# Altium footprint library DK TT.PcbLib: 23 footprints (part 2 of 2)
Each footprint in its own frame and in the unit in brackets; x right, y up, seen from the top. Pads: shape width x height; smd on the part's side, far side on the other; paste and mask are expansions set on the pad; w line width, h text height; cw(c..) or ccw(c..) is an arc to the next point about the centre after c.
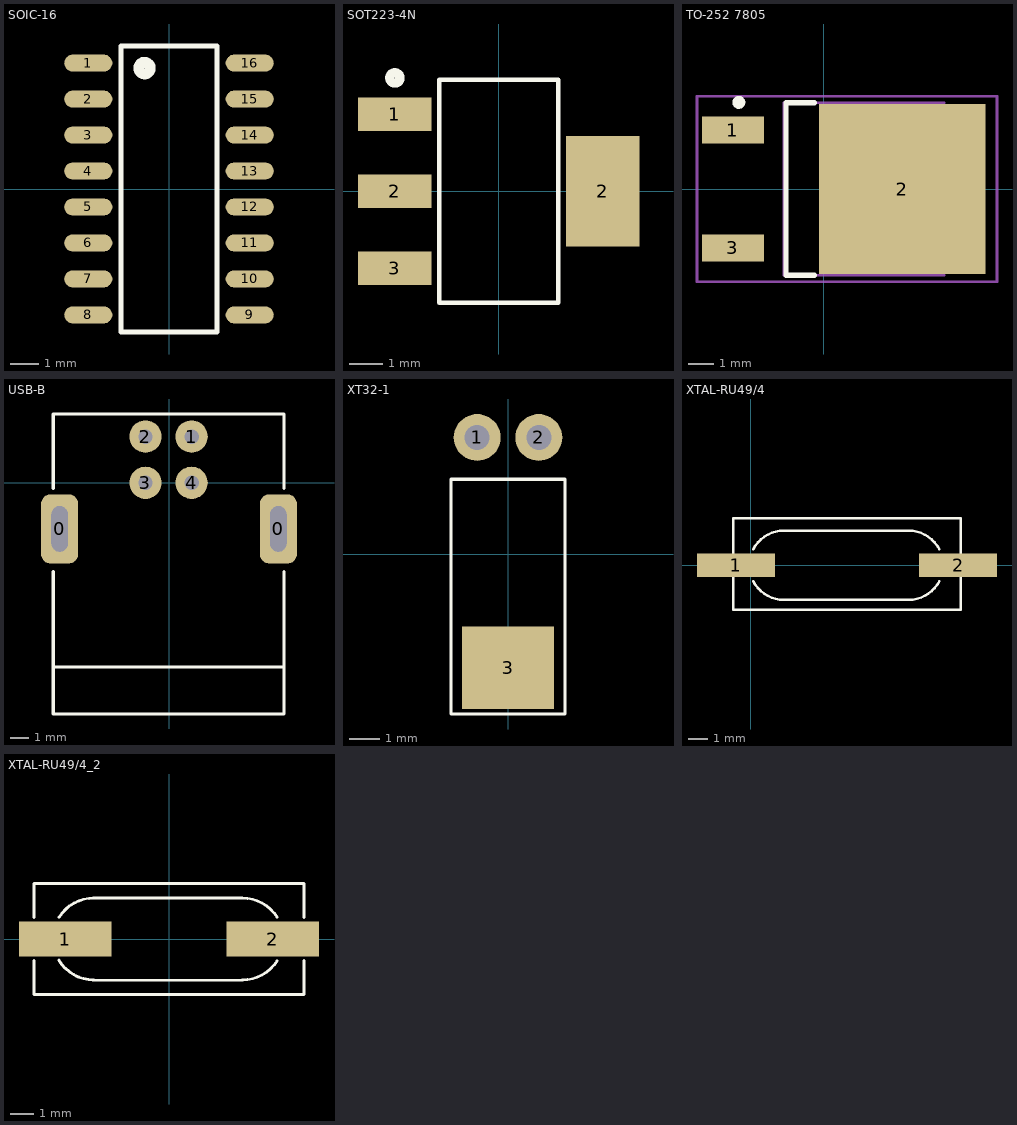
[diagram p1: the footprints below, top view; thin cyan lines are the x and y axes]

## SOIC-16 [mm]
height 1.75
pads (16):
  oval 1.7x0.6 smd: 1(-2.85,4.445) 2(-2.85,3.175) 3(-2.85,1.905) 4(-2.85,0.635) 5(-2.85,-0.635) 6(-2.85,-1.905) 7(-2.85,-3.175) 8(-2.85,-4.445) 9(2.85,-4.445) 10(2.85,-3.175) 11(2.85,-1.905) 12(2.85,-0.635) 13(2.85,0.635) 14(2.85,1.905) 15(2.85,3.175) 16(2.85,4.445)
Top Overlay:
  circle w0.381: c-0.864,4.267 r0.203
  lines w0.178: -1.7,-5.055 1.7,-5.055 1.7,5.055 -1.7,5.055 -1.7,-5.055
3D body "User Library-SOIC-16-3.step": height 1.7, standoff 0, extent -3.099,-4.953 3.099,4.953

## SOT223-4N [mm] "SOT223, 4-Leads, Body 6.5x3.5mm, Pitch 2.3mm, Lead Span 7mm, IPC Medium Density"
height 1.8
pads (4):
  rect 2.2x1 smd: 1(-3.1,2.3) 2(-3.1,0) 3(-3.1,-2.3)
  rect 2.2x3.3 smd: 2(3.1,0)
Top Overlay:
  circle w0.279: c-3.099,3.378 r0.152
  lines w0.127: -1.779,-3.327 1.777,-3.327 1.777,3.327 -1.779,3.327 -1.779,-3.327
3D body "User Library-SOT223-3.step": height 1.7, standoff 0, extent -3.5,-3.25 3.5,3.25

## TO-252 7805 [mil]
height 68.9
pads (3):
  rect 95x41.34 smd: 1(-138.92,90.16) 3(-138.92,-90.16)
  rect 255x260 smd: 2(120,0)
Top Overlay:
  circle w9.84: c-129.92,132.48 r4.92
  lines w7.87: -14.57,-131.89 -58.07,-131.89 -58.07,131.89 -14.57,131.89
Mechanical 13:
  lines w3.94: 183.86,-131.89 -61.02,-131.89 -61.02,131.89 183.86,131.89
Mechanical 15:
  lines w3.94: 15.75,0 55.12,0 ; 35.43,-19.68 35.43,19.69 ; -193.9,-141.73 264.76,-141.73 264.76,141.73 -193.9,141.73 -193.9,-141.73
3D body "CircuitWorks-TO-252.step": height 90.55, standoff 0, extent -160.48,-129.52 221.41,129.53

## USB-B [mil]
height 68.9
pads (6):
  rrect50% 80x150 hole 35.43 slot 98.43 at 90 deg: 0(-237.01,-100) 0(237.01,-100)
  round 70 hole 31: 1(49,100) 2(-51,100) 3(-51,0) 4(49,0)
Top Overlay:
  lines w7: -251,-501 249,-501 ; -251,-399 249,-399 ; -251,149 249,149
  lines w7.01: -251,-501 -251,-192.91 ; -251,-11.81 -251,149 ; 249,-501 249,-192.91 ; 249,-11.81 249,149
Mechanical 11:
  text ".Designator" at 40,-130 h30
Mechanical 12:
  text ".Comment" at 40,-130 h30
3D body "Samtec3dPS-USBR-B.STEP": height 446.54, standoff -132.99, extent -290.28,-499.73 296.29,142

## XT32-1 [mil] "Cryxtal 32.768kHz"
height 68.9
pads (3):
  round 60 hole 32: 1(-39.37,149.35) 2(39.37,149.35)
  rect 118.11x105 smd: 3(0,-145)
Top Overlay:
  lines w4: -73,-93 -73,96 73,96 73,-204 -73,-204 -73,-92
3D body: height 68.88, standoff 49.23, extent 29.7,90.94 49.3,150
3D body: height 68.9, standoff 49.21, extent 29.78,140.78 49.36,160.38
3D body: height 60, standoff -60, extent 29.76,140.7 49.44,160.39
3D body: height 60, standoff -60, extent -49.4,140.05 -29.71,159.74
3D body: height 68.9, standoff 49.21, extent -49.37,140.13 -29.79,159.73
3D body: height 68.88, standoff 49.23, extent -49.46,90.3 -29.85,149.35
3D body: height 129.78, standoff -11.67, extent -70.59,-202.28 70.59,93

## XTAL-RU49/4 [mm]
height 2.5
pads (2):
  rect 4x1.2 smd: 1(-0.762,0) 2(10.668,0)
Top Overlay:
  lines w0.127: 0.127,-0.825 ccw(c1.702,0) 1.702,-1.778 ; 0.127,0.825 cw(c1.702,0) 1.702,1.778 ; 1.651,-1.787 8.137,-1.787 ; 1.651,1.778 8.128,1.778 cw(c8.128,0) 9.703,0.825 ; 8.128,-1.778 ccw(c8.128,0) 9.703,-0.825 ; -0.889,-2.286 -0.889,2.413 10.795,2.413 10.795,-2.286 -0.889,-2.286
3D body "User Library-HC-49S.step": height 4.3, standoff -0.05, extent -1.197,-2.223 11.103,2.477

## XTAL-RU49/4_2 [mm]
pads (2):
  rect 4x1.5 smd: 1(-4.5,0) 2(4.5,0)
Top Overlay:
  lines w0.127: -5.842,-0.94 -5.842,-2.413 5.842,-2.413 5.842,-0.94 ; -5.842,0.94 -5.842,2.413 5.842,2.413 5.842,0.94 ; -4.775,-0.916 ccw(c-3.251,0) -3.251,-1.778 ; -4.759,0.942 cw(c-3.251,0) -3.251,1.778 ; -3.302,-1.787 3.184,-1.787 ; -3.302,1.778 3.175,1.778 cw(c3.175,0) 4.683,0.942 ; 3.175,-1.778 ccw(c3.175,0) 4.683,-0.942
3D body "User Library-HC-49S.step": height 4.3, standoff -0.05, extent -6.15,-2.35 6.15,2.35